# Altium schematic symbol library PPX-C025L25B.SchLib: 1 symbol
Pins are listed as number, name and electrical type; pins without a type are passive.

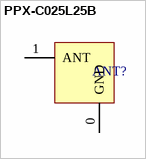
[diagram p0: symbol PPX-C025L25B]

## PPX-C025L25B
designator ANT?  (value not drawn)
pins: 0 GND (power), 1 ANT (power)